# EAGLE library part RASPBERRY_PI (library Z)
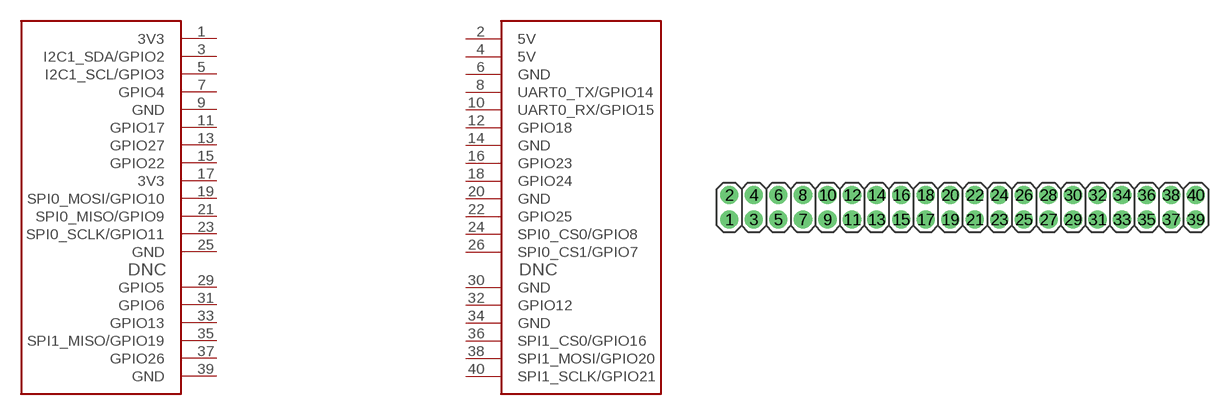
[diagram p5: symbol with the pads of _HEADER_2.54_2X20; footprint _HEADER_2.54_2X20]

Designator prefix -

## RASPBERRY_PI  [_HEADER_2.54_2X20]
1  3V3
2  5V
3  I2C1_SDA/GPIO2
4  5V
5  I2C1_SCL/GPIO3
6  GND
7  GPIO4
8  UART0_TX/GPIO14
9  GND
10  UART0_RX/GPIO15
11  GPIO17
12  GPIO18
13  GPIO27
14  GND
15  GPIO22
16  GPIO23
17  3V3
18  GPIO24
19  SPI0_MOSI/GPIO10
20  GND
21  SPI0_MISO/GPIO9
22  GPIO25
23  SPI0_SCLK/GPIO11
24  SPI0_CS0/GPIO8
25  GND
26  SPI0_CS1/GPIO7
29  GPIO5
30  GND
31  GPIO6
32  GPIO12
33  GPIO13
34  GND
35  SPI1_MISO/GPIO19
36  SPI1_CS0/GPIO16
37  GPIO26
38  SPI1_MOSI/GPIO20
39  GND
40  SPI1_SCLK/GPIO21

## RASPBERRY_PI_MIRRORED  [_HEADER_2.54_2X20]
1  5V
2  3V3
3  5V
4  I2C1_SDA/GPIO2
5  GND
6  I2C1_SCL/GPIO3
7  UART0_TX/GPIO14
8  GPIO4
9  UART0_RX/GPIO15
10  GND
11  GPIO18
12  GPIO17
13  GND
14  GPIO27
15  GPIO23
16  GPIO22
17  GPIO24
18  3V3
19  GND
20  SPI0_MOSI/GPIO10
21  GPIO25
22  SPI0_MISO/GPIO9
23  SPI0_CS0/GPIO8
24  SPI0_SCLK/GPIO11
25  SPI0_CS1/GPIO7
26  GND
29  GND
30  GPIO5
31  GPIO12
32  GPIO6
33  GND
34  GPIO13
35  SPI1_CS0/GPIO16
36  SPI1_MISO/GPIO19
37  SPI1_MOSI/GPIO20
38  GPIO26
39  SPI1_SCLK/GPIO21
40  GND

## Footprint _HEADER_2.54_2X20 (pad centres in mm)
Plated Through Hole - 2x10 Specifications: Pin count:20 Pin pitch:0.1" Example device(s): CONN_10x2
drill 1.016 pad 1.88: 1 0,0; 2 0,2.54; 3 2.54,0; 4 2.54,2.54; 5 5.08,0; 6 5.08,2.54; 7 7.62,0; 8 7.62,2.54; 9 10.16,0; 10 10.16,2.54; 11 12.7,0; 12 12.7,2.54; 13 15.24,0; 14 15.24,2.54; 15 17.78,0; 16 17.78,2.54; 17 20.32,0; 18 20.32,2.54; 19 22.86,0; 20 22.86,2.54; 21 25.4,0; 22 25.4,2.54; 23 27.94,0; 24 27.94,2.54; 25 30.48,0; 26 30.48,2.54; 27 33.02,0; 28 33.02,2.54; 29 35.56,0; 30 35.56,2.54; 31 38.1,0; 32 38.1,2.54; 33 40.64,0; 34 40.64,2.54; 35 43.18,0; 36 43.18,2.54; 37 45.72,0; 38 45.72,2.54; 39 48.26,0; 40 48.26,2.54